# Altium schematic symbol library Schlib1.SchLib: 2 symbols
Pins are listed as number, name and electrical type; pins without a type are passive.

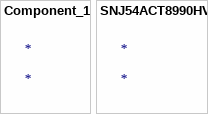
[diagram p0: symbols Component_1 to SNJ54ACT8990HV]

## Component_1
designator *

## SNJ54ACT8990HV
designator *
TEST BUS CONTROLLER 68-CFP -55 T Test Bus Controller IC 68-CQFP (12.7x12.7); Manufacturer: Texas Instruments; Manufacturer Part Number: SNJ54ACT8990HV; Manufacturer Lifecycle Status: ACTIVE; Number of Bits: 16; Supplier: Arrow Electronics; Supplier Part Number: SNJ54ACT8990HV; Category: Integrated Circuits (ICs); Stock: 29; Pricing: 1=607.49 (USD); Height: 3.86mm; Lead Free: Contains Lead; Length: 12.51mm; Lifecycle Status: Production; Max Operating Temperature: 125°C; Min Operating Temperature: -55°C; Mounting Technology: Surface Mount; Pins: 68; Packaging: Rail/Tube; Radiation Hardening: No; RoHS: Non-Compliant; Thickness: 3.56mm; Width: 12.51mm; ComponentLink1URL: https://datasheet.octopart.com:443/SNJ54ACT8990HV-Texas-Instruments-datasheet-21221290.pdf?src-supplier=Texas+Instruments; ComponentLink1Description: https://datasheet.octopart.com:443/SNJ54ACT8990HV-Texas-Instruments-datasheet-21221290.pdf?src-supplier=Texas+Instruments; ComponentLink2URL: https://octopart.com:443/opatz8j6/c1?t=3_iDqramLzhRe2wdCxUnzBiSgLGxZZ3U3BEiOkoSu3jvMuFIrp4IUv1kFgTP3mv5cebdbLU5wLeaItgXq0bQATmTgkgg4hYzwJ9eTeo1Ha9axV69Vtd-XXMDl9LgeK9MGlTqWwktC1oXPUHhqvhnCmMZvSDrnmm803Qm_lemd6wiwCU2LnrGnfcMbhVfxof5bY7jKvRzxXxwKcTNlA5E_Us8v08_uuLbmSua3dDkZq-i2Xx1Srx601vOOObjNpvZFwTrZogq2z6MV82EUV86wXtGHO8MRT2WS91rKDMRjN6ShL6Dmgm46yF0x0thc7js7TAX9Gb20Kz25bQMCLHa5RZFhuZyy492IuCuJ_VxbRq5YdoWVlIZkZ8CS2XccfkqEkgErcUSyRk&src-supplier=Texas+Instruments; ComponentLink2Description: https://octopart.com:443/opatz8j6/c1?t=3_iDqramLzhRe2wdCxUnzBiSgLGxZZ3U3BEiOkoSu3jvMuFIrp4IUv1kFgTP3mv5cebdbLU5wLeaItgXq0bQATmTgkgg4hYzwJ9eTeo1Ha9axV69Vtd-XXMDl9LgeK9MGlTqWwktC1oXPUHhqvhnCmMZvSDrnmm803Qm_lemd6wiwCU2LnrGnfcMbhVfxof5bY7jKvRzxXxwKcTNlA5E_Us8v08_uuLbmSua3dDkZq-i2Xx1Srx601vOOObjNpvZFwTrZogq2z6MV82EUV86wXtGHO8MRT2WS91rKDMRjN6ShL6Dmgm46yF0x0thc7js7TAX9Gb20Kz25bQMCLHa5RZFhuZyy492IuCuJ_VxbRq5YdoWVlIZkZ8CS2XccfkqEkgErcUSyRk&src-supplier=Texas+Instruments; ComponentLink3URL: https://datasheet.octopart.com:443/SNJ54ACT8990HV-Texas-Instruments-datasheet-10255066.pdf?src-supplier=Texas+Instruments; ComponentLink3Description: https://datasheet.octopart.com:443/SNJ54ACT8990HV-Texas-Instruments-datasheet-10255066.pdf?src-supplier=Texas+Instruments; ComponentLink4URL: https://sigma.octopart.com:443/49249615/technical_drawing/Texas-Instruments-SNJ54ACT8990HV.pdf?src-supplier=Texas+Instruments; ComponentLink4Description: https://sigma.octopart.com:443/49249615/technical_drawing/Texas-Instruments-SNJ54ACT8990HV.pdf?src-supplier=Texas+Instruments; ComponentLink5URL: http://sigma.octopart.com:80/reach_statement/Texas-Instruments-company-64.pdf?src-supplier=Compliance+Statements; ComponentLink5Description: http://sigma.octopart.com:80/reach_statement/Texas-Instruments-company-64.pdf?src-supplier=Compliance+Statements; ComponentLink6URL: http://sigma.octopart.com:80/conflict_mineral_statement/Texas-Instruments-company-63.pdf?src-supplier=Compliance+Statements; ComponentLink6Description: http://sigma.octopart.com:80/conflict_mineral_statement/Texas-Instruments-company-63.pdf?src-supplier=Compliance+Statements